# Altium footprint library ART-Pi_STM32H750_COPY.PcbLib: 50 footprints (part 1 of 4)
Each footprint in its own frame and in the unit in brackets; x right, y up, seen from the top. Pads: shape width x height; smd on the part's side, far side on the other; paste and mask are expansions set on the pad; w line width, h text height; cw(c..) or ccw(c..) is an arc to the next point about the centre after c.
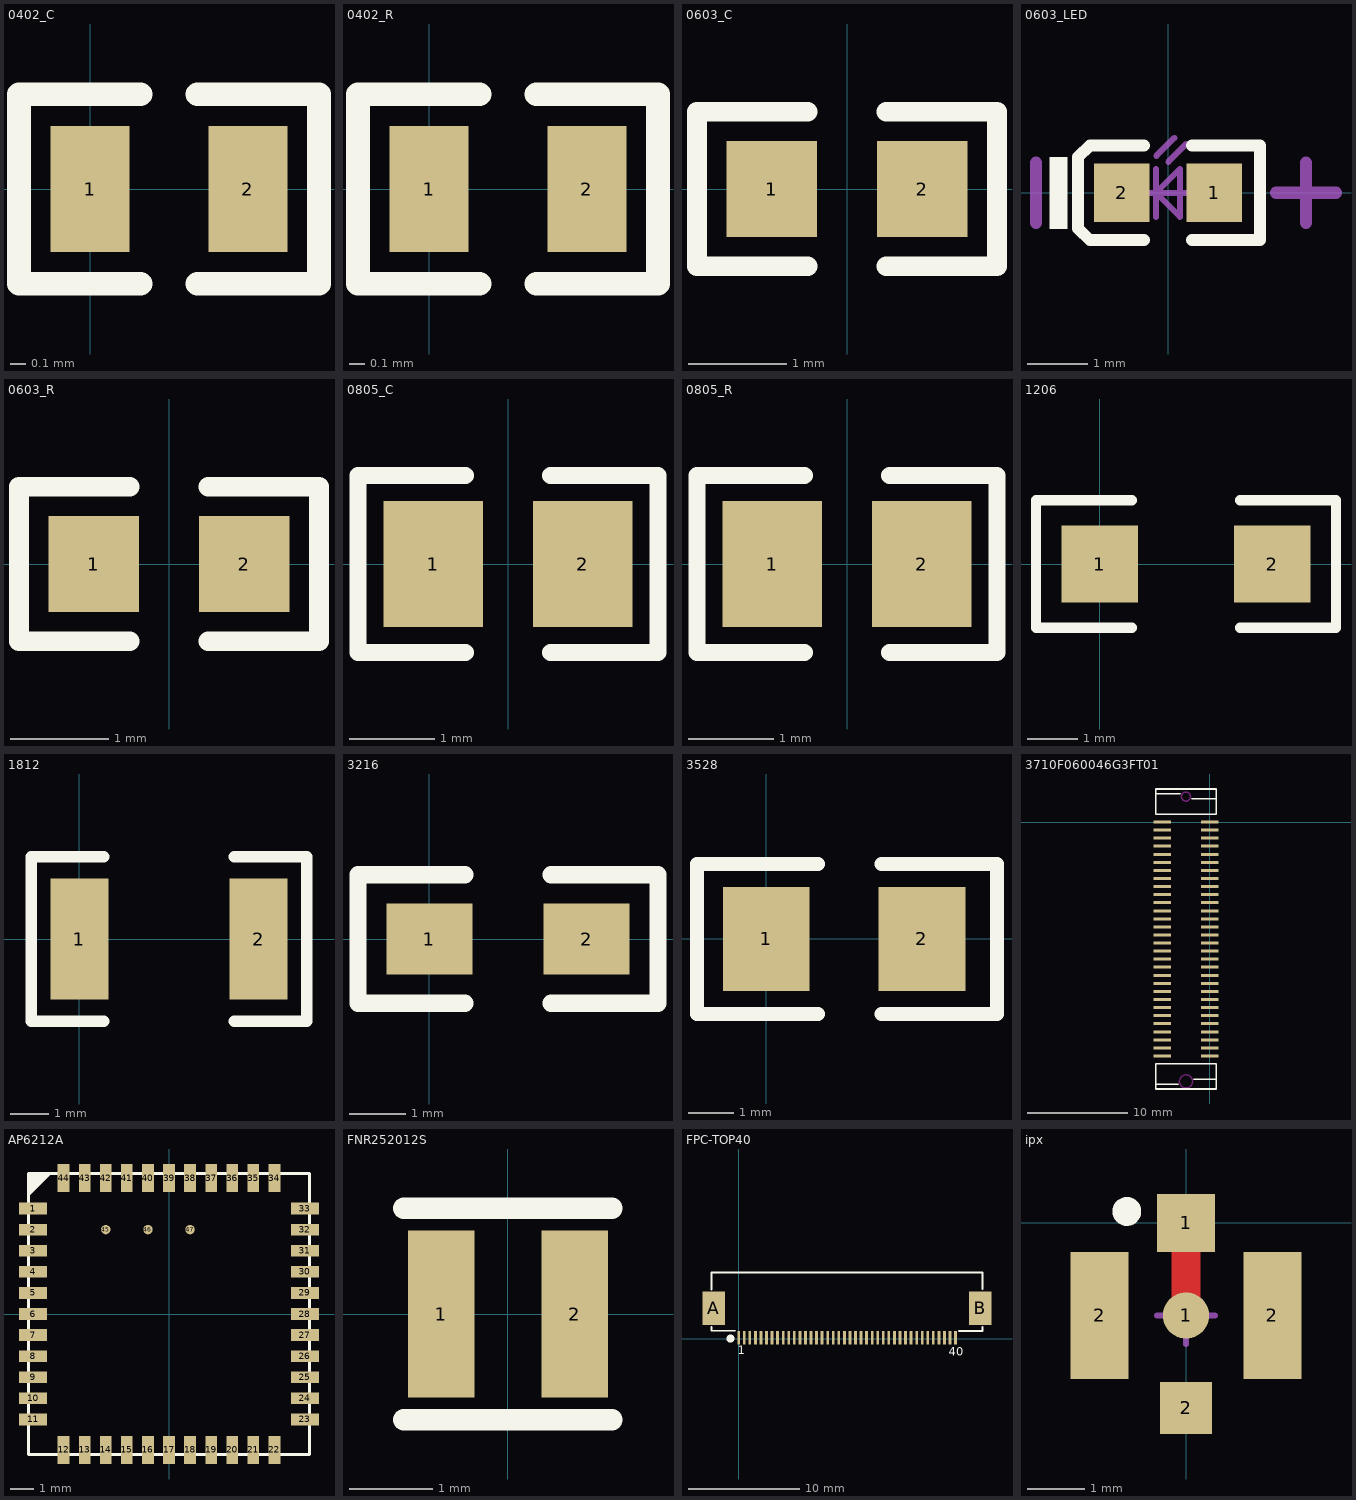
[diagram p0: the footprints below, top view; thin cyan lines are the x and y axes]

## 0402_C [mm]
pads (2):
  rect 0.5x0.8 smd: 1(0,0) 2(1,0)
Top Overlay:
  lines w0.15: 0.32,-0.6 -0.45,-0.6 -0.45,0.6 0.32,0.6 ; 0.68,-0.6 1.45,-0.6 1.45,0.6 0.68,0.6
3D body "0402_C.step": height 0.49, standoff 0, extent 0.029,-0.25 1.029,0.25

## 0402_R [mm]
pads (2):
  rect 0.5x0.8 smd: 1(0,0) 2(1,0)
Top Overlay:
  lines w0.15: 0.32,-0.6 -0.45,-0.6 -0.45,0.6 0.32,0.6 ; 0.68,-0.6 1.45,-0.6 1.45,0.6 0.68,0.6
3D body "0402_R.step": height 0.38, standoff 0.02, extent 0.015,-0.276 1.006,0.232

## 0603_C [mm]
height 1.6
pads (2):
  rect 0.93x0.98 smd: 1(-0.77,0) 2(0.77,0)
Top Overlay:
  lines w0.2: -0.4,-0.79 -1.535,-0.79 -1.535,0.79 -0.4,0.79 ; 0.4,-0.79 1.535,-0.79 1.535,0.79 0.4,0.79
3D body "0603_C.step": height 0.88, standoff 0, extent -0.756,-0.43 0.844,0.38

## 0603_LED [mm]
height 1.6
pads (2):
  rect 0.93x0.98 smd: 1(0.77,0) 2(-0.77,0)
Top Overlay:
  rectangle: -1.975,-0.6 -1.675,0.6
  lines w0.2: -0.4,-0.79 -1.3,-0.79 -1.5,-0.597 -1.5,0.597 -1.3,0.79 -0.4,0.79 ; 0.4,-0.79 1.535,-0.79 1.535,0.79 0.4,0.79
Mechanical 13:
  lines w0.1: -0.4,0 0.4,0 ; -0.2,-0.4 -0.2,0.4 ; -0.195,0.617 0.105,0.917 ; 0.005,0.517 0.305,0.817 ; -0.2,0 0.2,-0.4 0.2,0.4 -0.2,0
Mechanical 15:
  lines w0.203: -2.2,-0.5 -2.2,0.5 ; 1.8,0 2.8,0 ; 2.3,-0.5 2.3,0.5
3D body "User Library-LED_0603_R.STEP": height 0.6, standoff 0, extent -0.8,-0.4 0.8,0.4

## 0603_R [mm]
height 1.6
pads (2):
  rect 0.93x0.98 smd: 1(-0.77,0) 2(0.77,0)
Top Overlay:
  lines w0.2: -0.4,-0.79 -1.535,-0.79 -1.535,0.79 -0.4,0.79 ; 0.4,-0.79 1.535,-0.79 1.535,0.79 0.4,0.79
3D body "User Library-RES_1609-0603.STEP": height 0.56, standoff 0, extent -0.85,-0.4 0.85,0.4

## 0805_C [mm]
height 1.6
pads (2):
  rect 1.16x1.47 smd: 1(-0.875,0) 2(0.875,0)
Top Overlay:
  lines w0.2: -0.5,-1.035 -1.755,-1.035 -1.755,1.035 -0.5,1.035 ; 0.5,-1.035 1.755,-1.035 1.755,1.035 0.5,1.035
3D body "0805_C.step": height 0.92, standoff 0, extent -0.957,-0.625 1.053,0.625

## 0805_R [mm]
height 1.6
pads (2):
  rect 1.16x1.47 smd: 1(-0.875,0) 2(0.875,0)
Top Overlay:
  lines w0.2: -0.5,-1.035 -1.755,-1.035 -1.755,1.035 -0.5,1.035 ; 0.5,-1.035 1.755,-1.035 1.755,1.035 0.5,1.035
3D body "User Library-R_0805.STEP": height 0.49, standoff -0.01, extent -0.997,-0.625 1.003,0.625

## 1206 [mil]
pads (2):
  rect 60x60 smd: 1(0,0) 2(135,0)
Top Overlay:
  lines w8: 25,-50 -50,-50 -50,50 25,50 ; 110,-50 185,-50 185,50 110,50

## 1812 [mil]
pads (2):
  rect 60x125 smd: 1(0,0) 2(185,0)
Top Overlay:
  lines w12: 25,-85 -50,-85 -50,85 25,85 ; 160,-85 235,-85 235,85 160,85
3D body "fuse1812.STEP": height 51.97, standoff 0, extent 3.12,-60.39 192.89,66.39

## 3216 [mil]
pads (2):
  rect 60x50 smd: 1(0,0) 2(110,0)
Top Overlay:
  lines w12: 25,-45 -50,-45 -50,45 25,45 ; 85,-45 160,-45 160,45 85,45

## 3528 [mil]
pads (2):
  rect 75x90 smd: 1(0,0) 2(135,0)
Top Overlay:
  lines w12: 45,-65 -60,-65 -60,65 45,65 ; 100,-65 200,-65 200,65 100,65

## 3710F060046G3FT01 [mm]
pads (60):
  rect 1.7x0.3 smd: 1(-4.7,0) 2(-4.7,-0.8) 3(-4.7,-1.6) 4(-4.7,-2.4) 5(-4.7,-3.2) 6(-4.7,-4) 7(-4.7,-4.8) 8(-4.7,-5.6) 9(-4.7,-6.4) 10(-4.7,-7.2) 11(-4.7,-8) 12(-4.7,-8.8) 13(-4.7,-9.6) 14(-4.7,-10.4) 15(-4.7,-11.2) 16(-4.7,-12) 17(-4.7,-12.8) 18(-4.7,-13.6) 19(-4.7,-14.4) 20(-4.7,-15.2) 21(-4.7,-16) 22(-4.7,-16.8) 23(-4.7,-17.6) 24(-4.7,-18.4) 25(-4.7,-19.2) 26(-4.7,-20) 27(-4.7,-20.8) 28(-4.7,-21.6) 29(-4.7,-22.4) 30(-4.7,-23.2) 31(0,-23.2) 32(0,-22.4) 33(0,-21.6) 34(0,-20.8) 35(0,-20) 36(0,-19.2) 37(0,-18.4) 38(0,-17.6) 39(0,-16.8) 40(0,-16) 41(0,-15.2) 42(0,-14.4) 43(0,-13.6) 44(0,-12.8) 45(0,-12) 46(0,-11.2) 47(0,-10.4) 48(0,-9.6) 49(0,-8.8) 50(0,-8) 51(0,-7.2) 52(0,-6.4) 53(0,-5.6) 54(0,-4.8) 55(0,-4) 56(0,-3.2) 57(0,-2.4) 58(0,-1.6) 59(0,-0.8) 60(0,0)
Top Overlay:
  lines w0.152: -5.35,-26 -3.1,-26 ; -5.35,2.8 -2.9,2.8 ; -1.8,2.3 0.65,2.3 ; -1.6,-25.5 0.65,-25.5 ; 0.625,0.775 -5.35,0.775 -5.35,3.275 0.65,3.275 0.65,0.775 ; -5.35,-26.475 0.65,-26.475 0.65,-23.975 -5.35,-23.975 -5.35,-26.475
Keep-Out Layer:
  circle w0.152: c-2.35,-25.725 r0.65
  circle w0.152: c-2.35,2.525 r0.45

## AP6212A [mm]
pads (47):
  rect 1.2x0.5 smd: 1(-5.8,4.5) 2(-5.8,3.6) 3(-5.8,2.7) 4(-5.8,1.8) 5(-5.8,0.9) 6(-5.8,0) 7(-5.8,-0.9) 8(-5.8,-1.8) 9(-5.8,-2.7) 10(-5.8,-3.6) 11(-5.8,-4.5) 23(5.8,-4.5) 24(5.8,-3.6) 25(5.8,-2.7) 26(5.8,-1.8) 27(5.8,-0.9) 28(5.8,0) 29(5.8,0.9) 30(5.8,1.8) 31(5.8,2.7) 32(5.8,3.6) 33(5.8,4.5)
  rect 0.5x1.2 smd: 12(-4.5,-5.8) 13(-3.6,-5.8) 14(-2.7,-5.8) 15(-1.8,-5.8) 16(-0.9,-5.8) 17(0,-5.8) 18(0.9,-5.8) 19(1.8,-5.8) 20(2.7,-5.8) 21(3.6,-5.8) 22(4.5,-5.8) 34(4.5,5.8) 35(3.6,5.8) 36(2.7,5.8) 37(1.8,5.8) 38(0.9,5.8) 39(0,5.8) 40(-0.9,5.8) 41(-1.8,5.8) 42(-2.7,5.8) 43(-3.6,5.8) 44(-4.5,5.8)
  round 0.4 smd: 45(-2.7,3.6) 46(-0.9,3.6) 47(0.9,3.6)
Top Overlay:
  region: -6,6 -6,5 -5,6
  lines w0.127: -6,-6 -6,6 6,6 6,-6 -6,-6
3D body "AP62XX.STEP": height 1.52, standoff 0, extent -6.025,-6 5.975,6

## FNR252012S [mm] "IND-SMD_L2.5-W2.0_FNR252012S"
pads (2):
  rect 0.8x2 smd: 1(-0.8,0) 2(0.8,0)
Top Overlay:
  lines w0.254: -1.25,-1.27 1.25,-1.27 ; -1.25,1.27 1.25,1.27
3D body "3225L-3_2x2_5.STEP": height 2.2, standoff 0, extent -1.599,-1.25 1.701,1.25

## FPC-TOP40 [mm]
pads (42):
  rect 0.25x1.2 smd: 1(0,0.102) 2(0.5,0.102) 3(1,0.102) 4(1.5,0.102) 5(2,0.102) 6(2.5,0.102) 7(3,0.102) 8(3.5,0.102) 9(4,0.102) 10(4.5,0.102) 11(5,0.102) 12(5.5,0.102) 13(6,0.102) 14(6.5,0.102) 15(7,0.102) 16(7.5,0.102) 17(8,0.102) 18(8.5,0.102) 19(9,0.102) 20(9.5,0.102) 21(10,0.102) 22(10.5,0.102) 23(11,0.102) 24(11.5,0.102) 25(12,0.102) 26(12.5,0.102) 27(13,0.102) 28(13.5,0.102) 29(14,0.102) 30(14.5,0.102) 31(15,0.102) 32(15.5,0.102) 33(16,0.102) 34(16.5,0.102) 35(17,0.102) 36(17.5,0.102) 37(18,0.102) 38(18.5,0.102) 39(19,0.102) 40(19.5,0.102)
  rect 2x3 smd: A(-2.25,2.754) B(21.725,2.754)
Top Overlay:
  circle w0.356: c-0.737,0.025 r0.178
  lines w0.127: -2.45,0.731 -2.438,0.719
  lines w0.152: -2.45,0.719 -0.305,0.719 ; -2.45,0.731 -2.45,1.067 ; -2.45,4.445 -2.45,5.969 21.925,5.969 21.925,4.47 ; 19.794,0.711 21.925,0.711 21.925,1.067
  text "1" at -0.102,-1.397 h0.76
  text "40" at 18.898,-1.499 h0.76
3D body "FPC40.stp": height 2.03, standoff -0.03, extent -3.022,0.137 22.478,5.777

## ipx [mm]
pads (5):
  round 0.8 smd: 1(0,-1.6)
  rect 1x1 smd: 1(0,0)
  rect 1x2.2 smd: 2(-1.496,-1.6) 2(1.496,-1.6)
  rect 0.9x0.9 smd: 2(0,-3.2)
Top Layer:
  lines w0.5: 0,-1.6 0,-0.178 0,0
Top Overlay:
  circle w0.25: c-1.025,0.2 r0.125
Mechanical 15:
  lines w0.1: -0.5,-1.6 0.5,-1.6 ; 0,-2.1 0,-1.1
3D body "IPX Connectors (RF).STEP": height 1.27, standoff -0.01, extent -1.5,-2.9 1.5,-0.05